# Altium schematic symbol library Sensors.SchLib: 1 symbol
Pins are listed as number, name and electrical type; pins without a type are passive.

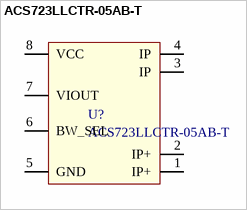
[diagram p0: symbol ACS723LLCTR-05AB-T]

## ACS723LLCTR-05AB-T
designator U?
No Description Available; Vendor: Allegro Microsystems Inc.; Built_By: EMA_Molly; SourceLibrary: Allegro_2019-12-17; Manufacturer_Part_Number: ACS723LLCTR-05AB-T; Copyright: Copyright (C) 2018 Accelerated Designs. All rights reserved; RefDes: RefDes; Type: DEV
footprint SOICN-8_ALM
pins: 1 IP+, 2 IP+, 3 IP, 4 IP, 5 GND, 6 BW_SEL, 7 VIOUT, 8 VCC